# EAGLE library part PHAROS-TOGPS (library HMC635x)
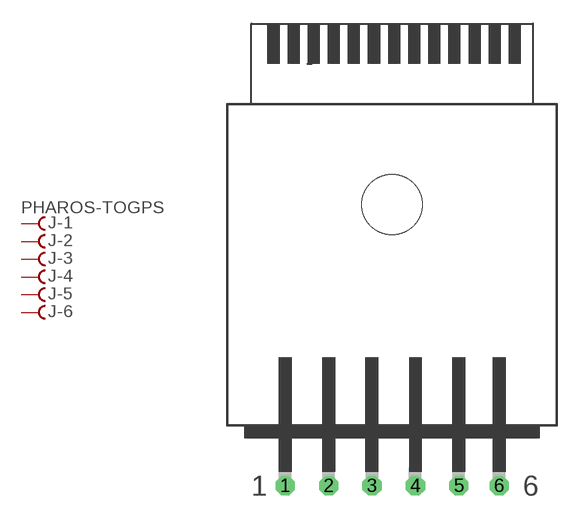
[diagram p2: symbol with the pads of PHAROS-TOGPS; footprint PHAROS-TOGPS]

Designator prefix J; gates -2=F -3=F -4=F -5=F -6=F -1=FV

## PHAROS-TOGPS  [PHAROS-TOGPS]
1  -1:F  pas
2  -2:F  pas
3  -3:F  pas
4  -4:F  pas
5  -5:F  pas
6  -6:F  pas

## Footprint PHAROS-TOGPS (pad centres in mm)
drill 0.7 octagon: 1 -6.756,-8.89; 2 -4.013,-8.89; 3 -1.27,-8.89; 4 1.473,-8.89; 5 4.216,-8.89; 6 6.756,-8.89
hole 3.81 at 0,8.89